# EAGLE library part FLASH_AT25DF021 (library tlcamera_rail_to_manufacture)
Atmel AT25DF021 Flash memory datachip.
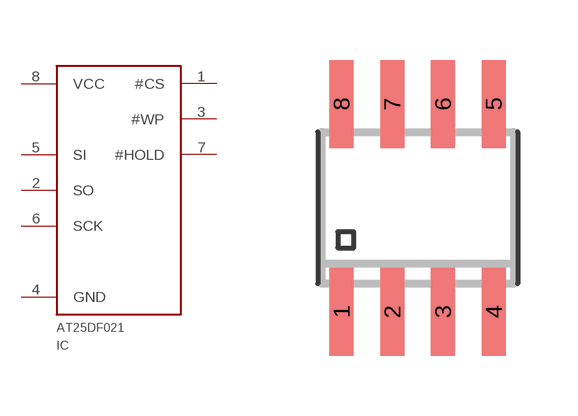
[diagram p1: symbol with the pads of SO8; footprint SO8]

Designator prefix IC

## FLASH_AT25DF021_SO8 (DATASHEET: http://atmel.com/dyn/resources/prod_documents/doc3677.pdf; FARNELL: http://fi.farnell.com/atmel/at25df021-ssh-b/memory-dataflash-2m-spi-8soic/dp/1715438)  [SO8]
1  #CS
2  SO
3  #WP
4  GND
5  SI
6  SCK
7  #HOLD
8  VCC

## Footprint SO8 (pad centres in mm)
8-Lead Small Outline IC (SO-8) Source: http://www.analog.com/UploadedFiles/Data_Sheets/703465986AD8611_2_0.pdf
smd 0.6 x 2.2: 1 -1.905,-2.6; 2 -0.635,-2.6; 3 0.635,-2.6; 4 1.905,-2.6; 5 1.905,2.6; 6 0.635,2.6; 7 -0.635,2.6; 8 -1.905,2.6